# EAGLE library part AT32UC3C0* (library ic-ATMEL)
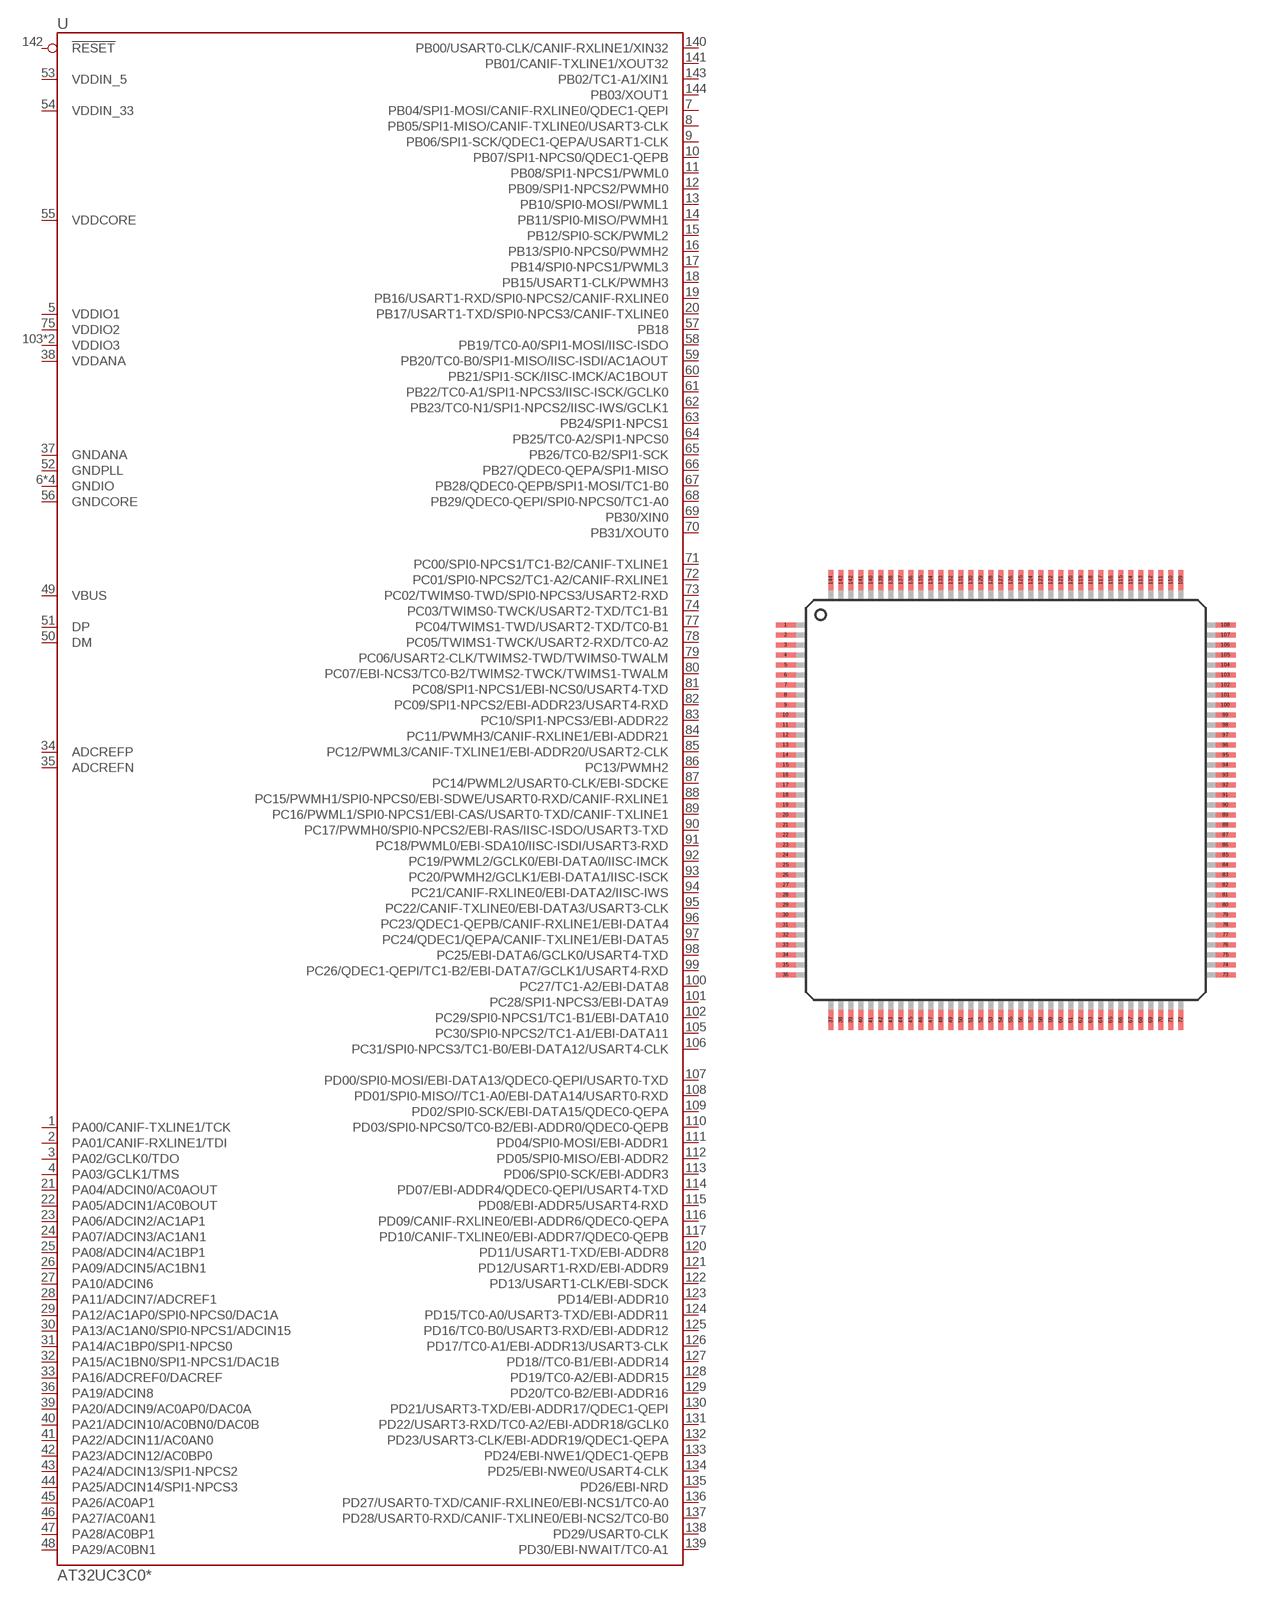
[diagram p14: symbol with the pads of QFP144-0.5; footprint QFP144-0.5]

Designator prefix U

## AT32UC3C0128-ALU, AT32UC3C0256-ALU, AT32UC3C0512-ALU, AT32UC3C064-ALU  [QFP144-0.5]
1  PA00/CANIF-TXLINE1/TCK
2  PA01/CANIF-RXLINE1/TDI
3  PA02/GCLK0/TDO
4  PA03/GCLK1/TMS
5  VDDIO1
6  GNDIO
7  PB04/SPI1-MOSI/CANIF-RXLINE0/QDEC1-QEPI
8  PB05/SPI1-MISO/CANIF-TXLINE0/USART3-CLK
9  PB06/SPI1-SCK/QDEC1-QEPA/USART1-CLK
10  PB07/SPI1-NPCS0/QDEC1-QEPB
11  PB08/SPI1-NPCS1/PWML0
12  PB09/SPI1-NPCS2/PWMH0
13  PB10/SPI0-MOSI/PWML1
14  PB11/SPI0-MISO/PWMH1
15  PB12/SPI0-SCK/PWML2
16  PB13/SPI0-NPCS0/PWMH2
17  PB14/SPI0-NPCS1/PWML3
18  PB15/USART1-CLK/PWMH3
19  PB16/USART1-RXD/SPI0-NPCS2/CANIF-RXLINE0
20  PB17/USART1-TXD/SPI0-NPCS3/CANIF-TXLINE0
21  PA04/ADCIN0/AC0AOUT
22  PA05/ADCIN1/AC0BOUT
23  PA06/ADCIN2/AC1AP1
24  PA07/ADCIN3/AC1AN1
25  PA08/ADCIN4/AC1BP1
26  PA09/ADCIN5/AC1BN1
27  PA10/ADCIN6
28  PA11/ADCIN7/ADCREF1
29  PA12/AC1AP0/SPI0-NPCS0/DAC1A
30  PA13/AC1AN0/SPI0-NPCS1/ADCIN15
31  PA14/AC1BP0/SPI1-NPCS0
32  PA15/AC1BN0/SPI1-NPCS1/DAC1B
33  PA16/ADCREF0/DACREF
34  ADCREFP
35  ADCREFN
36  PA19/ADCIN8
37  GNDANA
38  VDDANA
39  PA20/ADCIN9/AC0AP0/DAC0A
40  PA21/ADCIN10/AC0BN0/DAC0B
41  PA22/ADCIN11/AC0AN0
42  PA23/ADCIN12/AC0BP0
43  PA24/ADCIN13/SPI1-NPCS2
44  PA25/ADCIN14/SPI1-NPCS3
45  PA26/AC0AP1
46  PA27/AC0AN1
47  PA28/AC0BP1
48  PA29/AC0BN1
49  VBUS
50  DM
51  DP
52  GNDPLL
53  VDDIN_5
54  VDDIN_33
55  VDDCORE
56  GNDCORE
57  PB18
58  PB19/TC0-A0/SPI1-MOSI/IISC-ISDO
59  PB20/TC0-B0/SPI1-MISO/IISC-ISDI/AC1AOUT
60  PB21/SPI1-SCK/IISC-IMCK/AC1BOUT
61  PB22/TC0-A1/SPI1-NPCS3/IISC-ISCK/GCLK0
62  PB23/TC0-N1/SPI1-NPCS2/IISC-IWS/GCLK1
63  PB24/SPI1-NPCS1
64  PB25/TC0-A2/SPI1-NPCS0
65  PB26/TC0-B2/SPI1-SCK
66  PB27/QDEC0-QEPA/SPI1-MISO
67  PB28/QDEC0-QEPB/SPI1-MOSI/TC1-B0
68  PB29/QDEC0-QEPI/SPI0-NPCS0/TC1-A0
69  PB30/XIN0
70  PB31/XOUT0
71  PC00/SPI0-NPCS1/TC1-B2/CANIF-TXLINE1
72  PC01/SPI0-NPCS2/TC1-A2/CANIF-RXLINE1
73  PC02/TWIMS0-TWD/SPI0-NPCS3/USART2-RXD
74  PC03/TWIMS0-TWCK/USART2-TXD/TC1-B1
75  VDDIO2
76  GNDIO
77  PC04/TWIMS1-TWD/USART2-TXD/TC0-B1
78  PC05/TWIMS1-TWCK/USART2-RXD/TC0-A2
79  PC06/USART2-CLK/TWIMS2-TWD/TWIMS0-TWALM
80  PC07/EBI-NCS3/TC0-B2/TWIMS2-TWCK/TWIMS1-TWALM
81  PC08/SPI1-NPCS1/EBI-NCS0/USART4-TXD
82  PC09/SPI1-NPCS2/EBI-ADDR23/USART4-RXD
83  PC10/SPI1-NPCS3/EBI-ADDR22
84  PC11/PWMH3/CANIF-RXLINE1/EBI-ADDR21
85  PC12/PWML3/CANIF-TXLINE1/EBI-ADDR20/USART2-CLK
86  PC13/PWMH2
87  PC14/PWML2/USART0-CLK/EBI-SDCKE
88  PC15/PWMH1/SPI0-NPCS0/EBI-SDWE/USART0-RXD/CANIF-RXLINE1
89  PC16/PWML1/SPI0-NPCS1/EBI-CAS/USART0-TXD/CANIF-TXLINE1
90  PC17/PWMH0/SPI0-NPCS2/EBI-RAS/IISC-ISDO/USART3-TXD
91  PC18/PWML0/EBI-SDA10/IISC-ISDI/USART3-RXD
92  PC19/PWML2/GCLK0/EBI-DATA0/IISC-IMCK
93  PC20/PWMH2/GCLK1/EBI-DATA1/IISC-ISCK
94  PC21/CANIF-RXLINE0/EBI-DATA2/IISC-IWS
95  PC22/CANIF-TXLINE0/EBI-DATA3/USART3-CLK
96  PC23/QDEC1-QEPB/CANIF-RXLINE1/EBI-DATA4
97  PC24/QDEC1/QEPA/CANIF-TXLINE1/EBI-DATA5
98  PC25/EBI-DATA6/GCLK0/USART4-TXD
99  PC26/QDEC1-QEPI/TC1-B2/EBI-DATA7/GCLK1/USART4-RXD
100  PC27/TC1-A2/EBI-DATA8
101  PC28/SPI1-NPCS3/EBI-DATA9
102  PC29/SPI0-NPCS1/TC1-B1/EBI-DATA10
103  VDDIO3
104  GNDIO
105  PC30/SPI0-NPCS2/TC1-A1/EBI-DATA11
106  PC31/SPI0-NPCS3/TC1-B0/EBI-DATA12/USART4-CLK
107  PD00/SPI0-MOSI/EBI-DATA13/QDEC0-QEPI/USART0-TXD
108  PD01/SPI0-MISO//TC1-A0/EBI-DATA14/USART0-RXD
109  PD02/SPI0-SCK/EBI-DATA15/QDEC0-QEPA
110  PD03/SPI0-NPCS0/TC0-B2/EBI-ADDR0/QDEC0-QEPB
111  PD04/SPI0-MOSI/EBI-ADDR1
112  PD05/SPI0-MISO/EBI-ADDR2
113  PD06/SPI0-SCK/EBI-ADDR3
114  PD07/EBI-ADDR4/QDEC0-QEPI/USART4-TXD
115  PD08/EBI-ADDR5/USART4-RXD
116  PD09/CANIF-RXLINE0/EBI-ADDR6/QDEC0-QEPA
117  PD10/CANIF-TXLINE0/EBI-ADDR7/QDEC0-QEPB
118  VDDIO3
119  GNDIO
120  PD11/USART1-TXD/EBI-ADDR8
121  PD12/USART1-RXD/EBI-ADDR9
122  PD13/USART1-CLK/EBI-SDCK
123  PD14/EBI-ADDR10
124  PD15/TC0-A0/USART3-TXD/EBI-ADDR11
125  PD16/TC0-B0/USART3-RXD/EBI-ADDR12
126  PD17/TC0-A1/EBI-ADDR13/USART3-CLK
127  PD18//TC0-B1/EBI-ADDR14
128  PD19/TC0-A2/EBI-ADDR15
129  PD20/TC0-B2/EBI-ADDR16
130  PD21/USART3-TXD/EBI-ADDR17/QDEC1-QEPI
131  PD22/USART3-RXD/TC0-A2/EBI-ADDR18/GCLK0
132  PD23/USART3-CLK/EBI-ADDR19/QDEC1-QEPA
133  PD24/EBI-NWE1/QDEC1-QEPB
134  PD25/EBI-NWE0/USART4-CLK
135  PD26/EBI-NRD
136  PD27/USART0-TXD/CANIF-RXLINE0/EBI-NCS1/TC0-A0
137  PD28/USART0-RXD/CANIF-TXLINE0/EBI-NCS2/TC0-B0
138  PD29/USART0-CLK
139  PD30/EBI-NWAIT/TC0-A1
140  PB00/USART0-CLK/CANIF-RXLINE1/XIN32
141  PB01/CANIF-TXLINE1/XOUT32
142  !RESET
143  PB02/TC1-A1/XIN1
144  PB03/XOUT1

## Footprint QFP144-0.5 (pad centres in mm)
smd 1 x 0.25: 1 -11,8.75; 2 -11,8.25; 3 -11,7.75; 4 -11,7.25; 5 -11,6.75; 6 -11,6.25; 7 -11,5.75; 8 -11,5.25; 9 -11,4.75; 10 -11,4.25; 11 -11,3.75; 12 -11,3.25; 13 -11,2.75; 14 -11,2.25; 15 -11,1.75; 16 -11,1.25; 17 -11,0.75; 18 -11,0.25; 19 -11,-0.25; 20 -11,-0.75; 21 -11,-1.25; 22 -11,-1.75; 23 -11,-2.25; 24 -11,-2.75; 25 -11,-3.25; 26 -11,-3.75; 27 -11,-4.25; 28 -11,-4.75; 29 -11,-5.25; 30 -11,-5.75; 31 -11,-6.25; 32 -11,-6.75; 33 -11,-7.25; 34 -11,-7.75; 35 -11,-8.25; 36 -11,-8.75; 73 11,-8.75; 74 11,-8.25; 75 11,-7.75; 76 11,-7.25; 77 11,-6.75; 78 11,-6.25; 79 11,-5.75; 80 11,-5.25; 81 11,-4.75; 82 11,-4.25; 83 11,-3.75; 84 11,-3.25; 85 11,-2.75; 86 11,-2.25; 87 11,-1.75; 88 11,-1.25; 89 11,-0.75; 90 11,-0.25; 91 11,0.25; 92 11,0.75; 93 11,1.25; 94 11,1.75; 95 11,2.25; 96 11,2.75; 97 11,3.25; 98 11,3.75; 99 11,4.25; 100 11,4.75; 101 11,5.25; 102 11,5.75; 103 11,6.25; 104 11,6.75; 105 11,7.25; 106 11,7.75; 107 11,8.25; 108 11,8.75
smd 0.25 x 1: 37 -8.75,-11; 38 -8.25,-11; 39 -7.75,-11; 40 -7.25,-11; 41 -6.75,-11; 42 -6.25,-11; 43 -5.75,-11; 44 -5.25,-11; 45 -4.75,-11; 46 -4.25,-11; 47 -3.75,-11; 48 -3.25,-11; 49 -2.75,-11; 50 -2.25,-11; 51 -1.75,-11; 52 -1.25,-11; 53 -0.75,-11; 54 -0.25,-11; 55 0.25,-11; 56 0.75,-11; 57 1.25,-11; 58 1.75,-11; 59 2.25,-11; 60 2.75,-11; 61 3.25,-11; 62 3.75,-11; 63 4.25,-11; 64 4.75,-11; 65 5.25,-11; 66 5.75,-11; 67 6.25,-11; 68 6.75,-11; 69 7.25,-11; 70 7.75,-11; 71 8.25,-11; 72 8.75,-11; 109 8.75,11; 110 8.25,11; 111 7.75,11; 112 7.25,11; 113 6.75,11; 114 6.25,11; 115 5.75,11; 116 5.25,11; 117 4.75,11; 118 4.25,11; 119 3.75,11; 120 3.25,11; 121 2.75,11; 122 2.25,11; 123 1.75,11; 124 1.25,11; 125 0.75,11; 126 0.25,11; 127 -0.25,11; 128 -0.75,11; 129 -1.25,11; 130 -1.75,11; 131 -2.25,11; 132 -2.75,11; 133 -3.25,11; 134 -3.75,11; 135 -4.25,11; 136 -4.75,11; 137 -5.25,11; 138 -5.75,11; 139 -6.25,11; 140 -6.75,11; 141 -7.25,11; 142 -7.75,11; 143 -8.25,11; 144 -8.75,11